# Altium footprint library pi_header.PcbLib: 1 footprints
Each footprint in its own frame and in the unit in brackets; x right, y up, seen from the top. Pads: shape width x height; smd on the part's side, far side on the other; paste and mask are expansions set on the pad; w line width, h text height; cw(c..) or ccw(c..) is an arc to the next point about the centre after c.
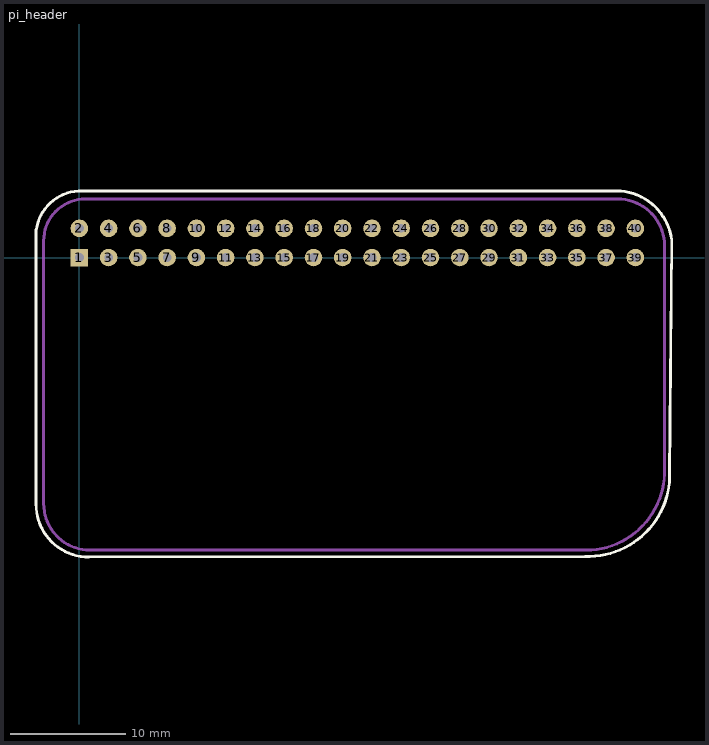
[diagram p0: the footprint, top view; thin cyan lines are the x and y axes]

## pi_header [mil]
pads (40):
  rect 60x60 hole 30: 1(0,0)
  round 60 hole 30: 2(0,100) 3(100,0) 4(100,100) 5(200,0) 6(200,100) 7(300,0) 8(300,100) 9(400,0) 10(400,100) 11(500,0) 12(500,100) 13(600,0) 14(600,100) 15(700,0) 16(700,100) 17(800,0) 18(800,100) 19(900,0) 20(900,100) 21(1000,0) 22(1000,100) 23(1100,0) 24(1100,100) 25(1200,0) 26(1200,100) 27(1300,0) 28(1300,100) 29(1400,0) 30(1400,100) 31(1500,0) 32(1500,100) 33(1600,0) 34(1600,100) 35(1700,0) 36(1700,100) 37(1800,0) 38(1800,100) 39(1900,0) 40(1900,100)
Top Overlay:
  lines w10: -148,95 -148,-843.1 ccw(c32.9,-843.1) 32.9,-1024 1727.65,-1021.47 ccw(c1737.34,-741.49) 2017.35,-750.01 2024.27,60.15 ccw(c1833.27,35.44) 1836.12,228 9.89,228 ; -147.5,93.5 cw(c6,73) 9.89,227.81
Mechanical 1:
  lines w10: 2000,-700 2000,-125 2000,39.53 ccw(c1839.53,39.53) 1839.53,200 20.02,200 ccw(c20.02,57.98) -122,57.98 -122,-175 -122,-525 -121.99,-841.26 ccw(c36.66,-841.35) 36.57,-1000 1750.2,-1000 ccw(c1728.27,-729.04) 2000,-721 2000,-675
3D body "LoRaWAN WM1302.STEP": height 748.03, standoff 566.93, extent -46,-1599.55 1961.87,-418.45
3D body "User Library-Raspberry_Pi_Zero_V1_3.STEP": height 293.31, standoff 116.73, extent -334.31,-1015.73 2252.31,189
3D body "User Library-40-pin GPIO Header for Raspberry Pi (color-coded).STEP": height 336.22, standoff -116.54, extent -56,-53 1944,147
3D body "SX1302_LoRaWAN_Gateway_HAT_Realistic_Colored.step": height 811.02, standoff 188.98, extent -621.8,-1920.36 2232.53,284.36